# Altium footprint library L-SPE-4600Series_Murata.PcbLib: 1 footprints
Each footprint in its own frame and in the unit in brackets; x right, y up, seen from the top. Pads: shape width x height; smd on the part's side, far side on the other; paste and mask are expansions set on the pad; w line width, h text height; cw(c..) or ccw(c..) is an arc to the next point about the centre after c.
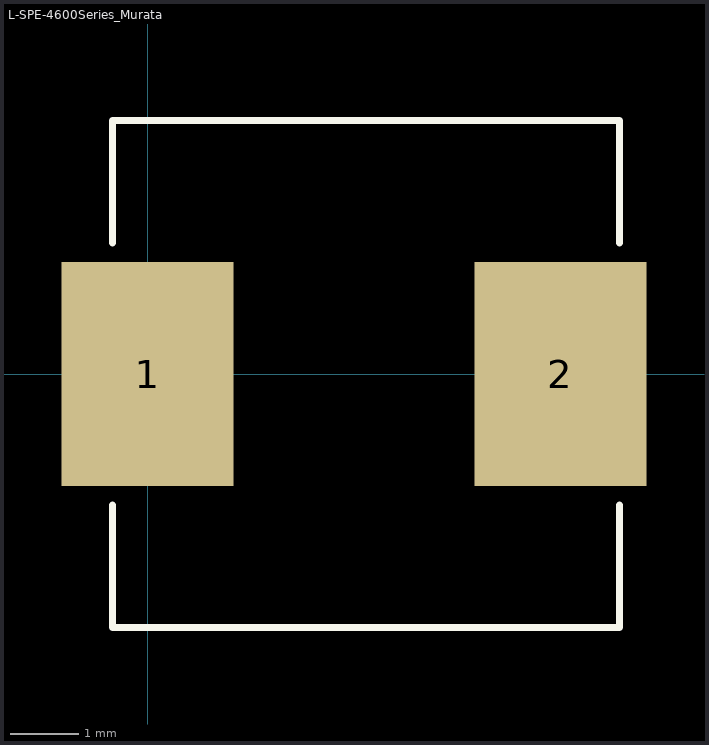
[diagram p0: the footprint, top view; thin cyan lines are the x and y axes]

## L-SPE-4600Series_Murata [mm]
pads (2):
  rect 2.5x3.25 smd: 1(0,0) 2(6,0)
Top Overlay:
  lines w0.1: -0.508,-1.905 -0.508,-3.683 6.858,-3.683 6.858,-1.905 ; -0.508,1.905 -0.508,3.683 6.858,3.683 6.858,1.905
3D body: height 2.3, standoff -0.1, extent -0.125,-3.1 6.475,3.1